# Altium integrated library E32-900M30S.IntLib: 1 symbol
Pins are listed as number, name and electrical type; pins without a type are passive.

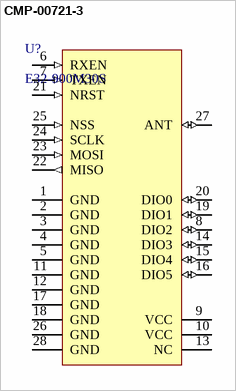
[diagram p0: symbol CMP-00721-3]

## CMP-00721-3
designator U?, comment E32-900M30S
868/915MHz LoRa TM SMD wireless module with the maximum transmission power of 1W which is based on the SX1276 EBYTE
footprint E32-900M30S-Footprint-1
pins: 1 GND (power), 2 GND (power), 3 GND (power), 4 GND (power), 5 GND (power), 6 RXEN (in), 7 TXEN (in), 8 DIO2 (io), 9 VCC (power), 10 VCC (power), 11 GND (power), 12 GND (power), 13 NC, 14 DIO3 (io), 15 DIO4 (io), 16 DIO5 (io), 17 GND (power), 18 GND (power), 19 DIO1 (io), 20 DIO0 (io), 21 NRST (in), 22 MISO (out), 23 MOSI (in), 24 SCLK (in), 25 NSS (in), 26 GND (power), 27 ANT (io), 28 GND (power)